# EAGLE library part DMG-POT (library Game Boy)
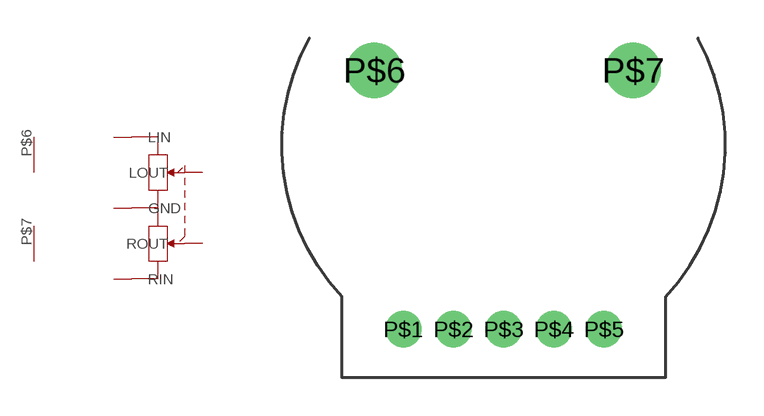
[diagram p3: symbol with the pads of DMG-POT; footprint DMG-POT]

Designator prefix -; gates G$1=DMG-POT G$2=PWRGND G$3=PWRGND

## DMG-POT  [DMG-POT]
P$1  G$1:GND
P$2  G$1:ROUT
P$3  G$1:LOUT
P$4  G$1:LIN
P$5  G$1:RIN
P$6  G$2:GND  pwr
P$7  G$3:GND  pwr

## Footprint DMG-POT (pad centres in mm)
drill 0.8 pad 1.422: P$1 -3.937,-5.08; P$2 -1.968,-5.08; P$3 0,-5.08; P$4 1.968,-5.08; P$5 3.937,-5.08
drill 1.1 pad 2.184: P$6 -5.08,5.08; P$7 5.08,5.08